# Altium integrated library Analog Devices Data Converters Analog-to-Digital Converters.IntLib: 2404 symbols (part 173 of 346)
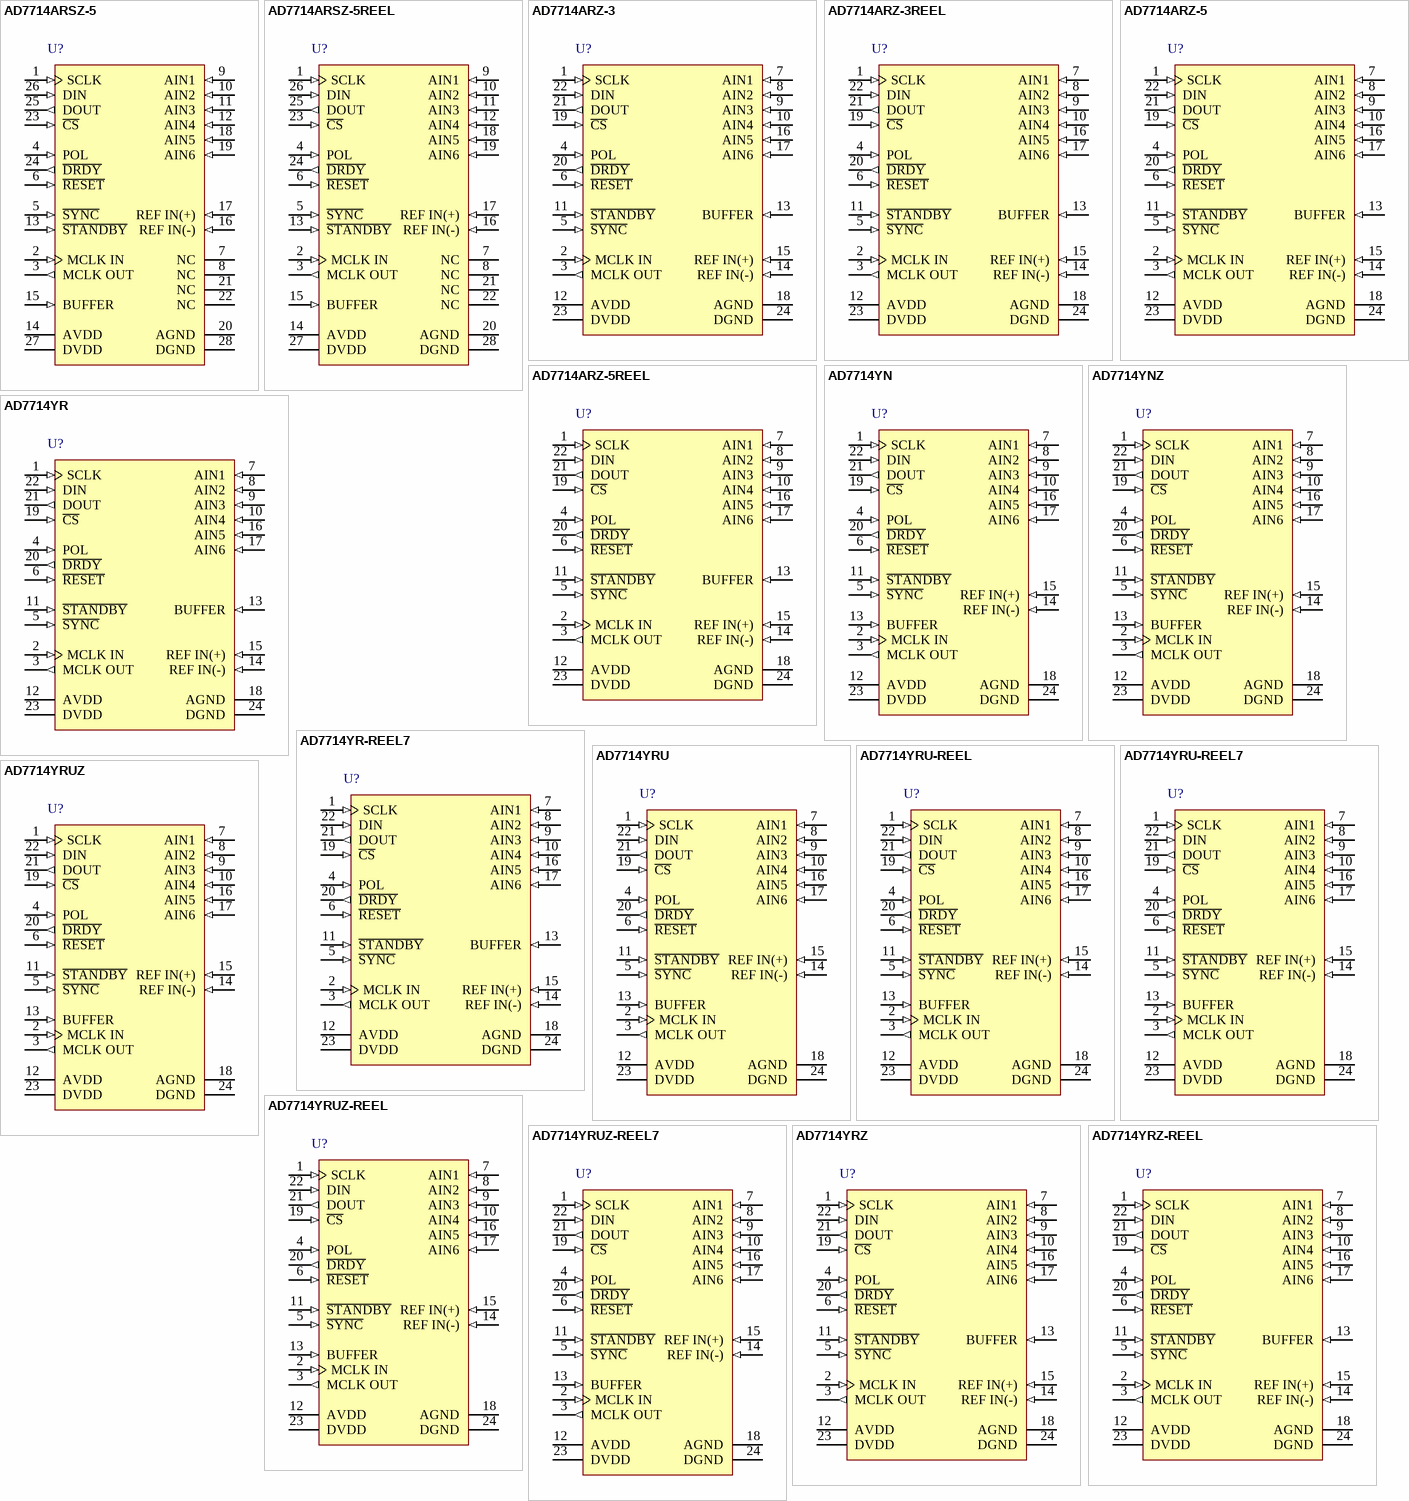
[diagram p249: symbols AD7714ARSZ-5 to AD7714YRZ-REEL]

## AD7714YRUZ
designator U?
5 Channel 24-Bit Signal Conditioning Analog-to-Digital Converter with Serial, SPI Interface, 500 uA, CMOS, 3 V / 5 V, 1KSPS, -40 to +105 degC, RU-24, Pb-Free, Tube; Generic Part Number: AD7714; Manufacturer: Analog Devices; PartNumber: AD7714YRUZ; Resolution (Bits): 24; Channels: 5; Throughput Rate (SPS): 1K; Interface: Ser, SPI; DatasheetVersion: Rev.C; PackageVersion: 2002; PackageReference: RU-24; PackageDescription: 24-Lead Thin Shrink Small Outline Package [TSSOP]; Supplier 1: Digi-Key; Supplier Part Number 1: AD7714YRUZ-ND; Supplier 2: Farnell; Supplier Part Number 2: 1438857; Supplier 3: Newark; Supplier Part Number 3: 15P0853; Supplier 4: Newark; Supplier Part Number 4: 19M8848; Supplier 5: Mouser; Supplier Part Number 5: 584-AD7714YRUZ; RoHS: Y; Packing: Tube; Mounting Technology: Surface Mount; Code_JEDEC: MO-153-AD; ComponentLink1Description: Manufacturer URL; ComponentLink1URL: http://www.analog.com/en/index.html; ComponentLink2Description: Datasheet; ComponentLink2URL: http://www.analog.com/static/imported-files/data_sheets/AD7714.pdf; ComponentLink3Description: Package Specification; ComponentLink3URL: http://www.analog.com/static/imported-files/packages/380523655245964505593671154107510036154RU24.pdf; ComponentLink4Description: Product URL; ComponentLink4URL: http://www.analog.com/en/analog-to-digital-converters/ad-converters/ad7714/products/product.html
footprint RU-24_N (TSOP, 24-Leads, Body 7.8x4.4mm, Pitch 0.65mm, IPC Medium Density)
footprint RU-24_L (TSOP, 24-Leads, Body 7.8x4.4mm, Pitch 0.65mm, IPC High Density)
footprint RU-24_M (TSOP, 24-Leads, Body 7.8x4.4mm, Pitch 0.65mm, IPC Low Density)
pins: 1 SCLK (in) "Serial Clock. Logic Input. An external serial clock is applied to this input to access serial data from the AD7714. This serial clock can be a continuous clock with all data transmitted in a continuous train of pulses.(See Datasheet)", 2 MCLK IN (in) "Master Clock signal for the device. This can be provided in the form of a crystal/resonator or external clock. A crystal/resonator can be tied across the MCLK IN and MCLK OUT pins. Alternatively, the MCLK IN pin can be (See Datasheet)", 3 MCLK OUT (out) "When the master clock for the device is a crystal/resonator, the crystal/resonator is connected between MCLK IN and MCLK OUT. If an external clock is applied to the MCLK IN, MCLK OUT provides an inverted clock signal. This (See Datasheet)", 4 POL (in) "Clock Polarity. Logic Input. With this input low, the first transition of the serial clock in a data transfer operation is from a low to a high. In microcontroller applications, this means that the serial clock should idle (See Datasheet)", 5 ~{SYNC} (in) "Logic Input which allows for synchronization of the digital filters and analog modulators when using a number of AD7714s. While S\Y\N\C\ is low, the nodes of the digital filter, the filter control logic and the calibration (See Datasheet)", 6 ~{RESET} (in) "Logic Input. Active low input which resets the control logic, interface logic, digital filter and analog modulator of the part to power-on status.", 7 AIN1 (in) "Analog Input Channel 1. Programmable-gain analog input which can be used as a pseudo-differential input when used with AIN6 or as the positive input of a differential analog input pair when used with AIN2 (see Communications (See Datasheet)", 8 AIN2 (in) "Analog Input Channel 2. Programmable-gain analog input which can be used as a pseudo-differential input when used with AIN6 or as the negative input of a differential analog input pair when used with AIN1 (see Communications (See Datasheet)", 9 AIN3 (in) "Analog Input Channel 3. Programmable-gain analog input which can be used as a pseudo-differential input when used with AIN6 or as the positive input of a differential analog input pair when used with AIN4 (see Communications (See Datasheet)", 10 AIN4 (in) "Analog Input Channel 4. Programmable-gain analog input which can be used as a pseudo-differential input when used with AIN6 or as the negative input of a differential analog input pair when used with AIN3 (see Communications (See Datasheet)", 11 ~{STANDBY} (in) "Logic Input. Taking this pin low shuts down the analog and digital circuitry, reducing current consumption to typically 5 uA.", 12 AVDD (power) "Analog Positive Supply Voltage, A Grade Versions: +3.3V nominal (AD7714-3) or +5V nominal (AD7714-5); Y Grade Versions: 3 V or 5 V nominal.", 13 BUFFER (in) "Buffer Option Select. Logic Input. With this input low, the on-chip buffer on the analog input (after the multiplexer and before the analog modulator) is shorted out. With the buffer shorted out the current flowing in the (See Datasheet)", 14 REF IN(-) (in) "Reference Input. Negative input of the differential reference input to the AD7714. The REF IN(-) can lie anywhere between AVDD and AGND provided REF IN(+) is greater than REF IN(-).", 15 REF IN(+) (in) "Reference Input. Positive input of the differential reference input to the AD7714. The reference input is differential with the provision that REF IN(+) must be greater than REF IN(-). REF IN(+) can lie anywhere between AVDD (See Datasheet)", 16 AIN5 (in) "Analog Input Channel 5. Programmable-gain analog input which is the positive input of a differential analog input pair when used with AIN6 (see Communications Register section).", 17 AIN6 (in) "Analog Input Channel 6. Reference point for AIN1 through AIN4 in pseudo-differential mode or as the negative input of a differential input pair when used with AIN5 (see Communications Register section).", 18 AGND (power) "Ground reference point for analog circuitry.", 19 ~{CS} (in) "Chip Select. Active low Logic Input used to select the AD7714. With this input hard-wired low, the AD7714 can operate in its three-wire interface mode with SCLK, DIN and DOUT used to interface to the device. C\S\ can be used (See Datasheet)", 20 ~{DRDY} (out) "Logic output. A logic low on this output indicates that a new output word is available from the AD7714 data register. The D\R\D\Y\ pin will return high upon completion of a read operation of a full output word. If no data (See Datasheet)", 21 DOUT (out) "Serial Data Output with serial data being read from the output shift register on the part. This output shift register can contain information from the calibration registers, mode register, communications register, filter (See Datasheet)", 22 DIN (in) "Serial Data Input with serial data being written to the input shift register on the part. Data from this input shift register is transferred to the calibration registers, mode register, communications register or filter (See Datasheet)", 23 DVDD (power) "Digital Supply Voltage, A Grade Versions: +3.3V or +5 V nominal; Y Grade Versions: 3 V or 5 V nominal.", 24 DGND (power) "Ground reference point for digital circuitry."

## AD7714YRUZ-REEL
designator U?
5 Channel 24-Bit Signal Conditioning Analog-to-Digital Converter with Serial, SPI Interface, 500 uA, CMOS, 3 V / 5 V, 1KSPS, -40 to +105 degC, RU-24, Pb-Free, Reel; Generic Part Number: AD7714; Manufacturer: Analog Devices; PartNumber: AD7714YRUZ-REEL; Resolution (Bits): 24; Channels: 5; Throughput Rate (SPS): 1K; Interface: Ser, SPI; DatasheetVersion: Rev.C; PackageVersion: 2002; PackageReference: RU-24; PackageDescription: 24-Lead Thin Shrink Small Outline Package [TSSOP]; Supplier 1: Digi-Key; Supplier Part Number 1: AD7714YRUZ-REEL-ND; Supplier 2: Mouser; Supplier Part Number 2: 584-AD7714YRUZ-R; RoHS: Y; Packing: Reel; Mounting Technology: Surface Mount; Code_JEDEC: MO-153-AD; ComponentLink1Description: Manufacturer URL; ComponentLink1URL: http://www.analog.com/en/index.html; ComponentLink2Description: Datasheet; ComponentLink2URL: http://www.analog.com/static/imported-files/data_sheets/AD7714.pdf; ComponentLink3Description: Package Specification; ComponentLink3URL: http://www.analog.com/static/imported-files/packages/380523655245964505593671154107510036154RU24.pdf; ComponentLink4Description: Product URL; ComponentLink4URL: http://www.analog.com/en/analog-to-digital-converters/ad-converters/ad7714/products/product.html
footprint RU-24_N (TSOP, 24-Leads, Body 7.8x4.4mm, Pitch 0.65mm, IPC Medium Density)
footprint RU-24_L (TSOP, 24-Leads, Body 7.8x4.4mm, Pitch 0.65mm, IPC High Density)
footprint RU-24_M (TSOP, 24-Leads, Body 7.8x4.4mm, Pitch 0.65mm, IPC Low Density)
pins: 1 SCLK (in) "Serial Clock. Logic Input. An external serial clock is applied to this input to access serial data from the AD7714. This serial clock can be a continuous clock with all data transmitted in a continuous train of pulses.(See Datasheet)", 2 MCLK IN (in) "Master Clock signal for the device. This can be provided in the form of a crystal/resonator or external clock. A crystal/resonator can be tied across the MCLK IN and MCLK OUT pins. Alternatively, the MCLK IN pin can be (See Datasheet)", 3 MCLK OUT (out) "When the master clock for the device is a crystal/resonator, the crystal/resonator is connected between MCLK IN and MCLK OUT. If an external clock is applied to the MCLK IN, MCLK OUT provides an inverted clock signal. This (See Datasheet)", 4 POL (in) "Clock Polarity. Logic Input. With this input low, the first transition of the serial clock in a data transfer operation is from a low to a high. In microcontroller applications, this means that the serial clock should idle (See Datasheet)", 5 ~{SYNC} (in) "Logic Input which allows for synchronization of the digital filters and analog modulators when using a number of AD7714s. While S\Y\N\C\ is low, the nodes of the digital filter, the filter control logic and the calibration (See Datasheet)", 6 ~{RESET} (in) "Logic Input. Active low input which resets the control logic, interface logic, digital filter and analog modulator of the part to power-on status.", 7 AIN1 (in) "Analog Input Channel 1. Programmable-gain analog input which can be used as a pseudo-differential input when used with AIN6 or as the positive input of a differential analog input pair when used with AIN2 (see Communications (See Datasheet)", 8 AIN2 (in) "Analog Input Channel 2. Programmable-gain analog input which can be used as a pseudo-differential input when used with AIN6 or as the negative input of a differential analog input pair when used with AIN1 (see Communications (See Datasheet)", 9 AIN3 (in) "Analog Input Channel 3. Programmable-gain analog input which can be used as a pseudo-differential input when used with AIN6 or as the positive input of a differential analog input pair when used with AIN4 (see Communications (See Datasheet)", 10 AIN4 (in) "Analog Input Channel 4. Programmable-gain analog input which can be used as a pseudo-differential input when used with AIN6 or as the negative input of a differential analog input pair when used with AIN3 (see Communications (See Datasheet)", 11 ~{STANDBY} (in) "Logic Input. Taking this pin low shuts down the analog and digital circuitry, reducing current consumption to typically 5 uA.", 12 AVDD (power) "Analog Positive Supply Voltage, A Grade Versions: +3.3V nominal (AD7714-3) or +5V nominal (AD7714-5); Y Grade Versions: 3 V or 5 V nominal.", 13 BUFFER (in) "Buffer Option Select. Logic Input. With this input low, the on-chip buffer on the analog input (after the multiplexer and before the analog modulator) is shorted out. With the buffer shorted out the current flowing in the (See Datasheet)", 14 REF IN(-) (in) "Reference Input. Negative input of the differential reference input to the AD7714. The REF IN(-) can lie anywhere between AVDD and AGND provided REF IN(+) is greater than REF IN(-).", 15 REF IN(+) (in) "Reference Input. Positive input of the differential reference input to the AD7714. The reference input is differential with the provision that REF IN(+) must be greater than REF IN(-). REF IN(+) can lie anywhere between AVDD (See Datasheet)", 16 AIN5 (in) "Analog Input Channel 5. Programmable-gain analog input which is the positive input of a differential analog input pair when used with AIN6 (see Communications Register section).", 17 AIN6 (in) "Analog Input Channel 6. Reference point for AIN1 through AIN4 in pseudo-differential mode or as the negative input of a differential input pair when used with AIN5 (see Communications Register section).", 18 AGND (power) "Ground reference point for analog circuitry.", 19 ~{CS} (in) "Chip Select. Active low Logic Input used to select the AD7714. With this input hard-wired low, the AD7714 can operate in its three-wire interface mode with SCLK, DIN and DOUT used to interface to the device. C\S\ can be used (See Datasheet)", 20 ~{DRDY} (out) "Logic output. A logic low on this output indicates that a new output word is available from the AD7714 data register. The D\R\D\Y\ pin will return high upon completion of a read operation of a full output word. If no data (See Datasheet)", 21 DOUT (out) "Serial Data Output with serial data being read from the output shift register on the part. This output shift register can contain information from the calibration registers, mode register, communications register, filter (See Datasheet)", 22 DIN (in) "Serial Data Input with serial data being written to the input shift register on the part. Data from this input shift register is transferred to the calibration registers, mode register, communications register or filter (See Datasheet)", 23 DVDD (power) "Digital Supply Voltage, A Grade Versions: +3.3V or +5 V nominal; Y Grade Versions: 3 V or 5 V nominal.", 24 DGND (power) "Ground reference point for digital circuitry."

## AD7714YRUZ-REEL7
designator U?
5 Channel 24-Bit Signal Conditioning Analog-to-Digital Converter with Serial, SPI Interface, 500 uA, CMOS, 3 V / 5 V, 1KSPS, -40 to +105 degC, RU-24, Pb-Free, Reel; Generic Part Number: AD7714; Manufacturer: Analog Devices; PartNumber: AD7714YRUZ-REEL7; Resolution (Bits): 24; Channels: 5; Throughput Rate (SPS): 1K; Interface: Ser, SPI; DatasheetVersion: Rev.C; PackageVersion: 2002; PackageReference: RU-24; PackageDescription: 24-Lead Thin Shrink Small Outline Package [TSSOP]; Supplier 1: Digi-Key; Supplier Part Number 1: AD7714YRUZ-REEL7TR-ND; Supplier 2: Digi-Key; Supplier Part Number 2: AD7714YRUZ-REEL7CT-ND; Supplier 3: Digi-Key; Supplier Part Number 3: AD7714YRUZ-REEL7DKR-ND; Supplier 4: Mouser; Supplier Part Number 4: 584-AD7714YRUZ-R7; RoHS: Y; Packing: Reel; Mounting Technology: Surface Mount; Code_JEDEC: MO-153-AD; ComponentLink1Description: Manufacturer URL; ComponentLink1URL: http://www.analog.com/en/index.html; ComponentLink2Description: Datasheet; ComponentLink2URL: http://www.analog.com/static/imported-files/data_sheets/AD7714.pdf; ComponentLink3Description: Package Specification; ComponentLink3URL: http://www.analog.com/static/imported-files/packages/380523655245964505593671154107510036154RU24.pdf; ComponentLink4Description: Product URL; ComponentLink4URL: http://www.analog.com/en/analog-to-digital-converters/ad-converters/ad7714/products/product.html
footprint RU-24_N (TSOP, 24-Leads, Body 7.8x4.4mm, Pitch 0.65mm, IPC Medium Density)
footprint RU-24_L (TSOP, 24-Leads, Body 7.8x4.4mm, Pitch 0.65mm, IPC High Density)
footprint RU-24_M (TSOP, 24-Leads, Body 7.8x4.4mm, Pitch 0.65mm, IPC Low Density)
pins: 1 SCLK (in) "Serial Clock. Logic Input. An external serial clock is applied to this input to access serial data from the AD7714. This serial clock can be a continuous clock with all data transmitted in a continuous train of pulses.(See Datasheet)", 2 MCLK IN (in) "Master Clock signal for the device. This can be provided in the form of a crystal/resonator or external clock. A crystal/resonator can be tied across the MCLK IN and MCLK OUT pins. Alternatively, the MCLK IN pin can be (See Datasheet)", 3 MCLK OUT (out) "When the master clock for the device is a crystal/resonator, the crystal/resonator is connected between MCLK IN and MCLK OUT. If an external clock is applied to the MCLK IN, MCLK OUT provides an inverted clock signal. This (See Datasheet)", 4 POL (in) "Clock Polarity. Logic Input. With this input low, the first transition of the serial clock in a data transfer operation is from a low to a high. In microcontroller applications, this means that the serial clock should idle (See Datasheet)", 5 ~{SYNC} (in) "Logic Input which allows for synchronization of the digital filters and analog modulators when using a number of AD7714s. While S\Y\N\C\ is low, the nodes of the digital filter, the filter control logic and the calibration (See Datasheet)", 6 ~{RESET} (in) "Logic Input. Active low input which resets the control logic, interface logic, digital filter and analog modulator of the part to power-on status.", 7 AIN1 (in) "Analog Input Channel 1. Programmable-gain analog input which can be used as a pseudo-differential input when used with AIN6 or as the positive input of a differential analog input pair when used with AIN2 (see Communications (See Datasheet)", 8 AIN2 (in) "Analog Input Channel 2. Programmable-gain analog input which can be used as a pseudo-differential input when used with AIN6 or as the negative input of a differential analog input pair when used with AIN1 (see Communications (See Datasheet)", 9 AIN3 (in) "Analog Input Channel 3. Programmable-gain analog input which can be used as a pseudo-differential input when used with AIN6 or as the positive input of a differential analog input pair when used with AIN4 (see Communications (See Datasheet)", 10 AIN4 (in) "Analog Input Channel 4. Programmable-gain analog input which can be used as a pseudo-differential input when used with AIN6 or as the negative input of a differential analog input pair when used with AIN3 (see Communications (See Datasheet)", 11 ~{STANDBY} (in) "Logic Input. Taking this pin low shuts down the analog and digital circuitry, reducing current consumption to typically 5 uA.", 12 AVDD (power) "Analog Positive Supply Voltage, A Grade Versions: +3.3V nominal (AD7714-3) or +5V nominal (AD7714-5); Y Grade Versions: 3 V or 5 V nominal.", 13 BUFFER (in) "Buffer Option Select. Logic Input. With this input low, the on-chip buffer on the analog input (after the multiplexer and before the analog modulator) is shorted out. With the buffer shorted out the current flowing in the (See Datasheet)", 14 REF IN(-) (in) "Reference Input. Negative input of the differential reference input to the AD7714. The REF IN(-) can lie anywhere between AVDD and AGND provided REF IN(+) is greater than REF IN(-).", 15 REF IN(+) (in) "Reference Input. Positive input of the differential reference input to the AD7714. The reference input is differential with the provision that REF IN(+) must be greater than REF IN(-). REF IN(+) can lie anywhere between AVDD (See Datasheet)", 16 AIN5 (in) "Analog Input Channel 5. Programmable-gain analog input which is the positive input of a differential analog input pair when used with AIN6 (see Communications Register section).", 17 AIN6 (in) "Analog Input Channel 6. Reference point for AIN1 through AIN4 in pseudo-differential mode or as the negative input of a differential input pair when used with AIN5 (see Communications Register section).", 18 AGND (power) "Ground reference point for analog circuitry.", 19 ~{CS} (in) "Chip Select. Active low Logic Input used to select the AD7714. With this input hard-wired low, the AD7714 can operate in its three-wire interface mode with SCLK, DIN and DOUT used to interface to the device. C\S\ can be used (See Datasheet)", 20 ~{DRDY} (out) "Logic output. A logic low on this output indicates that a new output word is available from the AD7714 data register. The D\R\D\Y\ pin will return high upon completion of a read operation of a full output word. If no data (See Datasheet)", 21 DOUT (out) "Serial Data Output with serial data being read from the output shift register on the part. This output shift register can contain information from the calibration registers, mode register, communications register, filter (See Datasheet)", 22 DIN (in) "Serial Data Input with serial data being written to the input shift register on the part. Data from this input shift register is transferred to the calibration registers, mode register, communications register or filter (See Datasheet)", 23 DVDD (power) "Digital Supply Voltage, A Grade Versions: +3.3V or +5 V nominal; Y Grade Versions: 3 V or 5 V nominal.", 24 DGND (power) "Ground reference point for digital circuitry."

## AD7714YRZ
designator U?
5 Channel 24-Bit Signal Conditioning Analog-to-Digital Converter with Serial, SPI Interface, 500 uA, CMOS, 3 V / 5 V, 1KSPS, -40 to +105 degC, RW-24, Pb-Free, Tube; Generic Part Number: AD7714; Manufacturer: Analog Devices; PartNumber: AD7714YRZ; Resolution (Bits): 24; Channels: 5; Throughput Rate (SPS): 1K; Interface: Ser, SPI; DatasheetVersion: Rev.C; PackageVersion: 060706-A; PackageReference: RW-24; PackageDescription: 24-Lead Standard Small Outline Package [SOIC_W]; Supplier 1: Digi-Key; Supplier Part Number 1: AD7714YRZ-ND; Supplier 2: Farnell; Supplier Part Number 2: 1438858; Supplier 3: Newark; Supplier Part Number 3: 15P0854; Supplier 4: Newark; Supplier Part Number 4: 59K5335; Supplier 5: Mouser; Supplier Part Number 5: 584-AD7714YRZ; RoHS: Y; Packing: Tube; Mounting Technology: Surface Mount; Code_JEDEC: MS-013-AD; ComponentLink1Description: Manufacturer URL; ComponentLink1URL: http://www.analog.com/en/index.html; ComponentLink2Description: Datasheet; ComponentLink2URL: http://www.analog.com/static/imported-files/data_sheets/AD7714.pdf; ComponentLink3Description: Package Specification; ComponentLink3URL: http://www.analog.com/static/imported-files/packages/33665150946139RW_24.pdf; ComponentLink4Description: Product URL; ComponentLink4URL: http://www.analog.com/en/analog-to-digital-converters/ad-converters/ad7714/products/product.html
footprint RW-24_N (SOIC, 24-Leads, Body 15.4x7.5mm, Pitch 1.27mm, IPC Medium Density)
footprint RW-24_L (SOIC, 24-Leads, Body 15.4x7.5mm, Pitch 1.27mm, IPC High Density)
footprint RW-24_M (SOIC, 24-Leads, Body 15.4x7.5mm, Pitch 1.27mm, IPC Low Density)
pins: 1 SCLK (in) "Serial Clock. Logic Input. An external serial clock is applied to this input to access serial data from the AD7714. This serial clock can be a continuous clock with all data transmitted in a continuous train of pulses.(See Datasheet)", 2 MCLK IN (in) "Master Clock signal for the device. This can be provided in the form of a crystal/resonator or external clock. A crystal/resonator can be tied across the MCLK IN and MCLK OUT pins. Alternatively, the MCLK IN pin can be (See Datasheet)", 3 MCLK OUT (out) "When the master clock for the device is a crystal/resonator, the crystal/resonator  is connected between MCLK IN and MCLK OUT. If an external clock is applied to the MCLK IN, MCLK OUT provides an inverted clock signal. This (See Datasheet)", 4 POL (in) "Clock Polarity. Logic Input. With this input low, the first transition of the serial clock in a data transfer operation is from a low to a high. In microcontroller applications, this means that the serial clock should idle (See Datasheet)", 5 ~{SYNC} (in) "Logic Input which allows for synchronization of the digital filters and analog modulators when using a number of AD7714s. While S\Y\N\C\ is low, the nodes of the digital filter, the filter control logic and the calibration (See Datasheet)", 6 ~{RESET} (in) "Logic Input. Active low input which resets the control logic, interface logic, digital filter and analog modulator of the part to power-on status.", 7 AIN1 (in) "Analog Input Channel 1. Programmable-gain analog input which can be used as a pseudo-differential input when used with AIN6 or as the positive input of a differential analog input pair when used with AIN2 (see Communications (See Datasheet)", 8 AIN2 (in) "Analog Input Channel 2. Programmable-gain analog input which can be used as a pseudo-differential input  when used with AIN6 or as the negative input of a differential analog input pair when used with AIN1 (see (See Datasheet)", 9 AIN3 (in) "Analog Input Channel 3. Programmable-gain analog input which can be used as a pseudo-differential input when used with AIN6 or as the positive input of a differential analog input pair when used with AIN4 (see Communications (See Datasheet)", 10 AIN4 (in) "Analog Input Channel 4. Programmable-gain analog input which can be used as a pseudo-differential input when used with AIN6 or as the negative input of a differential analog input pair when used with AIN3 (see Communications (See Datasheet)", 11 ~{STANDBY} (in) "Logic Input. Taking this pin low shuts down the analog and digital circuitry, reducing current consumption to typically 5 uA.", 12 AVDD (power) "Analog Positive Supply Voltage, A Grade Versions: +3.3 V nominal (AD7714-3) or +5 V nominal (AD7714-5);Y Grade Versions: 3 V or 5 V nominal.", 13 BUFFER (in) "Buffer Option Select. Logic Input. With this input low, the on-chip buffer on the analog input (after the multiplexer and before the analog modulator) is shorted out. With the buffer shorted out the current flowing in the (See Datasheet)", 14 REF IN(-) (in) "Reference Input. Negative input of the differential reference input to the AD7714. The REF IN(-) can lie anywhere between AVDD and AGND provided REFIN(+) is greater than REF IN(-).", 15 REF IN(+) (in) "Reference Input. Positive input of the differential reference input to the AD7714. The reference input is differential with the provision that REF IN(+) must be greater than REF IN(-). REF IN(+) can lie anywhere between AVDD (See Datasheet)", 16 AIN5 (in) "Analog Input Channel 5. Programmable-gain analog input which is the positive input of a differential analog input pair when used with AIN6 (see Communications Register section).", 17 AIN6 (in) "Analog Input Channel 6. Reference point for AIN1 through AIN4 in pseudo-differential mode or as the negative input of a differential input pair when used with AIN5 (see Communications Register section).", 18 AGND (power) "Ground reference point for analog circuitry.", 19 ~{CS} (in) "Chip Select. Active low Logic Input used to select the AD7714. With this input hard-wired low, the AD7714 can operate in its three-wire interface mode with SCLK, DIN and DOUT used to interface to the device. C\S\ can be used (See Datasheet)", 20 ~{DRDY} (out) "Logic output. A logic low on this output indicates that a new output word is available from the AD7714 data register. The D\R\D\Y\ pin will return high upon completion of a read operation of a full output word. If no data (See Datasheet)", 21 DOUT (out) "Serial Data Output with serial data being read from the output shift register on the part. This output shift register can contain information from the calibration registers, mode register, communications register, filter (See Datasheet)", 22 DIN (in) "Serial Data Input with serial data being written to the input shift register on the part. Data from this input shift register is transferred to the calibration registers, mode register, communications register or filter (See Datasheet)", 23 DVDD (power) "Digital Supply Voltage, A Grade Versions: +3.3 V or +5 V nominal; Y Grade Versions: 3 V or 5 V nominal.", 24 DGND (power) "Ground reference point for digital circuitry."

## AD7714YRZ-REEL
designator U?
5 Channel 24-Bit Signal Conditioning Analog-to-Digital Converter with Serial, SPI Interface, 500 uA, CMOS, 3 V / 5 V, 1KSPS, -40 to +105 degC, RW-24, Pb-Free, Reel; Generic Part Number: AD7714; Manufacturer: Analog Devices; PartNumber: AD7714YRZ-REEL; Resolution (Bits): 24; Channels: 5; Throughput Rate (SPS): 1K; Interface: Ser, SPI; DatasheetVersion: Rev.C; PackageVersion: 060706-A; PackageReference: RW-24; PackageDescription: 24-Lead Standard Small Outline Package [SOIC_W]; Supplier 1: Digi-Key; Supplier Part Number 1: AD7714YRZ-REEL-ND; Supplier 2: Mouser; Supplier Part Number 2: 584-AD7714YRZ-R; RoHS: Y; Packing: Reel; Mounting Technology: Surface Mount; Code_JEDEC: MS-013-AD; ComponentLink1Description: Manufacturer URL; ComponentLink1URL: http://www.analog.com/en/index.html; ComponentLink2Description: Datasheet; ComponentLink2URL: http://www.analog.com/static/imported-files/data_sheets/AD7714.pdf; ComponentLink3Description: Package Specification; ComponentLink3URL: http://www.analog.com/static/imported-files/packages/33665150946139RW_24.pdf; ComponentLink4Description: Product URL; ComponentLink4URL: http://www.analog.com/en/analog-to-digital-converters/ad-converters/ad7714/products/product.html
footprint RW-24_N (SOIC, 24-Leads, Body 15.4x7.5mm, Pitch 1.27mm, IPC Medium Density)
footprint RW-24_L (SOIC, 24-Leads, Body 15.4x7.5mm, Pitch 1.27mm, IPC High Density)
footprint RW-24_M (SOIC, 24-Leads, Body 15.4x7.5mm, Pitch 1.27mm, IPC Low Density)
pins: 1 SCLK (in) "Serial Clock. Logic Input. An external serial clock is applied to this input to access serial data from the AD7714. This serial clock can be a continuous clock with all data transmitted in a continuous train of pulses.(See Datasheet)", 2 MCLK IN (in) "Master Clock signal for the device. This can be provided in the form of a crystal/resonator or external clock. A crystal/resonator can be tied across the MCLK IN and MCLK OUT pins. Alternatively, the MCLK IN pin can be (See Datasheet)", 3 MCLK OUT (out) "When the master clock for the device is a crystal/resonator, the crystal/resonator  is connected between MCLK IN and MCLK OUT. If an external clock is applied to the MCLK IN, MCLK OUT provides an inverted clock signal. This (See Datasheet)", 4 POL (in) "Clock Polarity. Logic Input. With this input low, the first transition of the serial clock in a data transfer operation is from a low to a high. In microcontroller applications, this means that the serial clock should idle (See Datasheet)", 5 ~{SYNC} (in) "Logic Input which allows for synchronization of the digital filters and analog modulators when using a number of AD7714s. While S\Y\N\C\ is low, the nodes of the digital filter, the filter control logic and the calibration (See Datasheet)", 6 ~{RESET} (in) "Logic Input. Active low input which resets the control logic, interface logic, digital filter and analog modulator of the part to power-on status.", 7 AIN1 (in) "Analog Input Channel 1. Programmable-gain analog input which can be used as a pseudo-differential input when used with AIN6 or as the positive input of a differential analog input pair when used with AIN2 (see Communications (See Datasheet)", 8 AIN2 (in) "Analog Input Channel 2. Programmable-gain analog input which can be used as a pseudo-differential input  when used with AIN6 or as the negative input of a differential analog input pair when used with AIN1 (see (See Datasheet)", 9 AIN3 (in) "Analog Input Channel 3. Programmable-gain analog input which can be used as a pseudo-differential input when used with AIN6 or as the positive input of a differential analog input pair when used with AIN4 (see Communications (See Datasheet)", 10 AIN4 (in) "Analog Input Channel 4. Programmable-gain analog input which can be used as a pseudo-differential input when used with AIN6 or as the negative input of a differential analog input pair when used with AIN3 (see Communications (See Datasheet)", 11 ~{STANDBY} (in) "Logic Input. Taking this pin low shuts down the analog and digital circuitry, reducing current consumption to typically 5 uA.", 12 AVDD (power) "Analog Positive Supply Voltage, A Grade Versions: +3.3 V nominal (AD7714-3) or +5 V nominal (AD7714-5);Y Grade Versions: 3 V or 5 V nominal.", 13 BUFFER (in) "Buffer Option Select. Logic Input. With this input low, the on-chip buffer on the analog input (after the multiplexer and before the analog modulator) is shorted out. With the buffer shorted out the current flowing in the (See Datasheet)", 14 REF IN(-) (in) "Reference Input. Negative input of the differential reference input to the AD7714. The REF IN(-) can lie anywhere between AVDD and AGND provided REFIN(+) is greater than REF IN(-).", 15 REF IN(+) (in) "Reference Input. Positive input of the differential reference input to the AD7714. The reference input is differential with the provision that REF IN(+) must be greater than REF IN(-). REF IN(+) can lie anywhere between AVDD (See Datasheet)", 16 AIN5 (in) "Analog Input Channel 5. Programmable-gain analog input which is the positive input of a differential analog input pair when used with AIN6 (see Communications Register section).", 17 AIN6 (in) "Analog Input Channel 6. Reference point for AIN1 through AIN4 in pseudo-differential mode or as the negative input of a differential input pair when used with AIN5 (see Communications Register section).", 18 AGND (power) "Ground reference point for analog circuitry.", 19 ~{CS} (in) "Chip Select. Active low Logic Input used to select the AD7714. With this input hard-wired low, the AD7714 can operate in its three-wire interface mode with SCLK, DIN and DOUT used to interface to the device. C\S\ can be used (See Datasheet)", 20 ~{DRDY} (out) "Logic output. A logic low on this output indicates that a new output word is available from the AD7714 data register. The D\R\D\Y\ pin will return high upon completion of a read operation of a full output word. If no data (See Datasheet)", 21 DOUT (out) "Serial Data Output with serial data being read from the output shift register on the part. This output shift register can contain information from the calibration registers, mode register, communications register, filter (See Datasheet)", 22 DIN (in) "Serial Data Input with serial data being written to the input shift register on the part. Data from this input shift register is transferred to the calibration registers, mode register, communications register or filter (See Datasheet)", 23 DVDD (power) "Digital Supply Voltage, A Grade Versions: +3.3 V or +5 V nominal; Y Grade Versions: 3 V or 5 V nominal.", 24 DGND (power) "Ground reference point for digital circuitry."

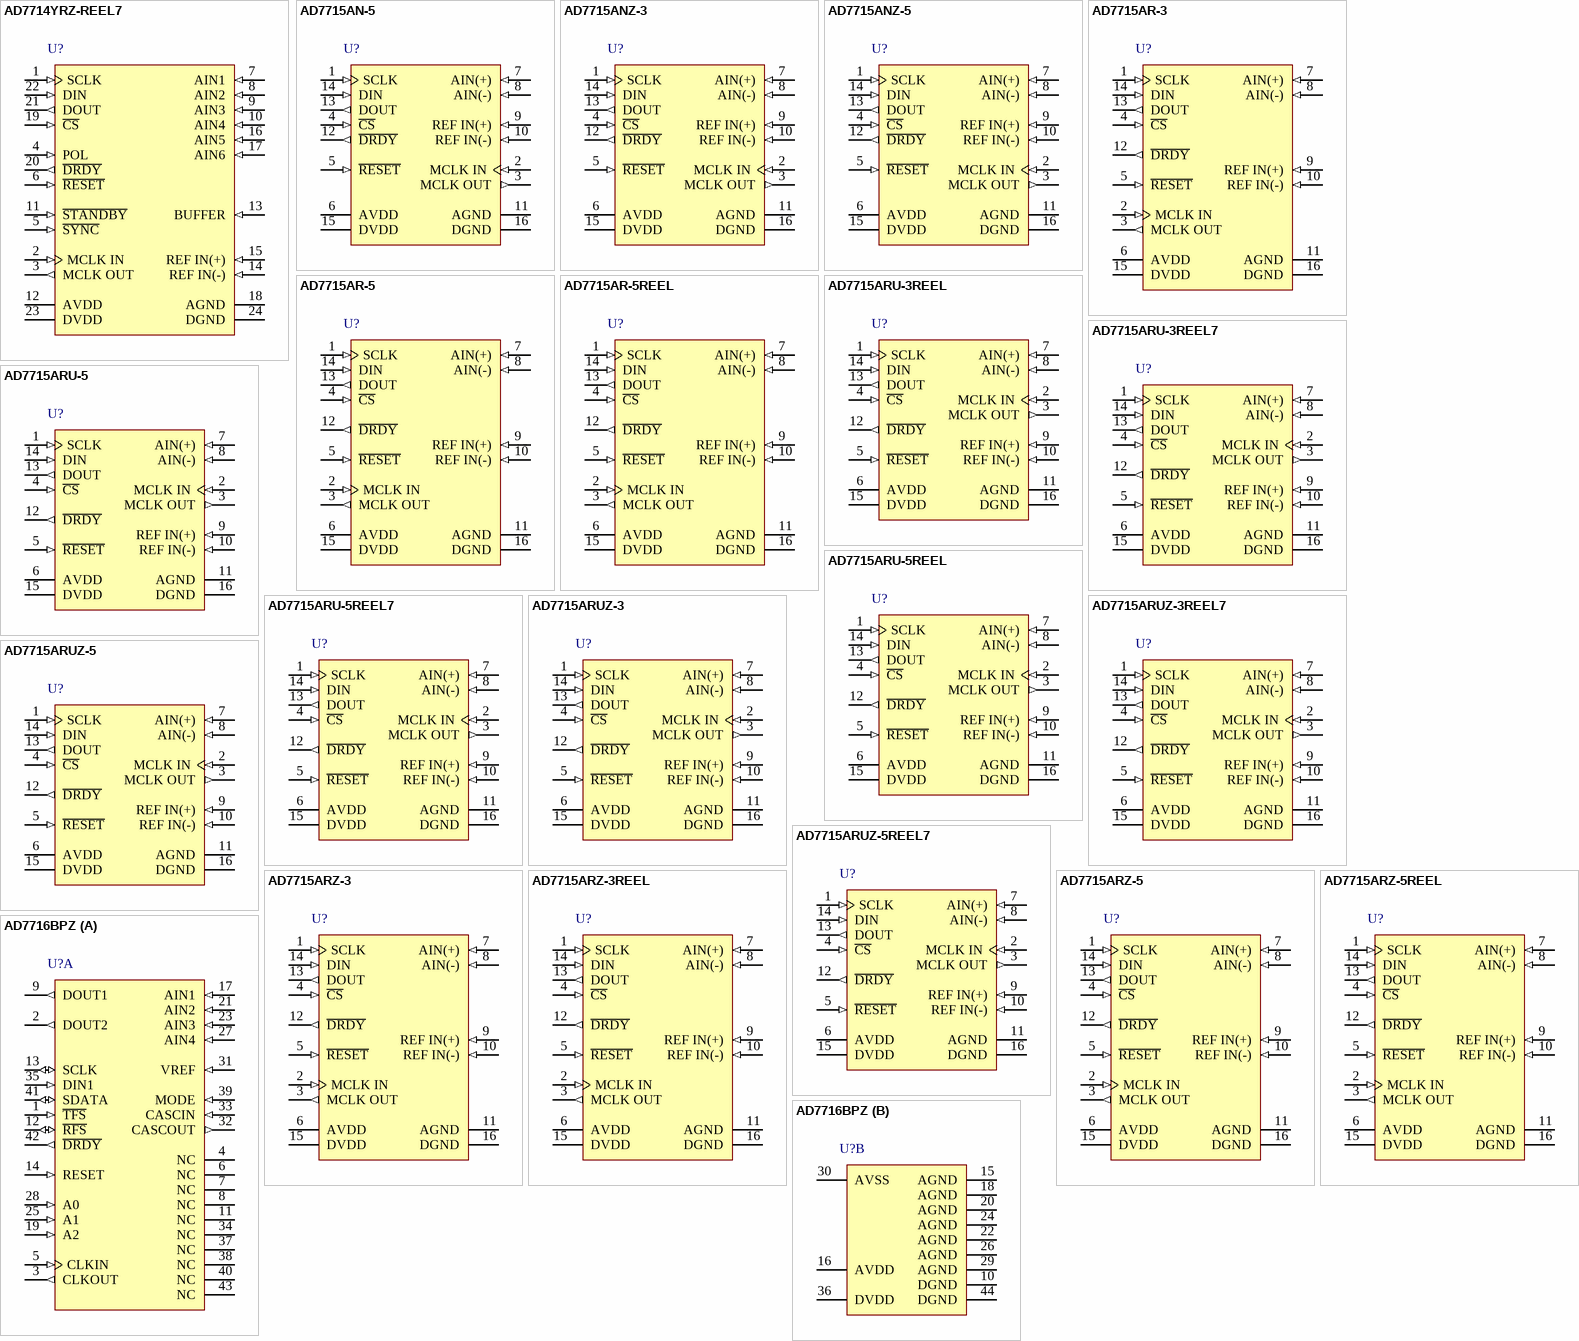
[diagram p53: symbols AD7714YRZ-REEL7 to AD7716BPZ]

## AD7714YRZ-REEL7
designator U?
5 Channel 24-Bit Signal Conditioning Analog-to-Digital Converter with Serial, SPI Interface, 500 uA, CMOS, 3 V / 5 V, 1KSPS, -40 to +105 degC, RW-24, Pb-Free, Reel; Generic Part Number: AD7714; Manufacturer: Analog Devices; PartNumber: AD7714YRZ-REEL7; Resolution (Bits): 24; Channels: 5; Throughput Rate (SPS): 1K; Interface: Ser, SPI; DatasheetVersion: Rev.C; PackageVersion: 060706-A; PackageReference: RW-24; PackageDescription: 24-Lead Standard Small Outline Package [SOIC_W]; Supplier 1: Digi-Key; Supplier Part Number 1: AD7714YRZ-REEL7-ND; Supplier 2: Mouser; Supplier Part Number 2: 584-AD7714YRZ-R7; RoHS: Y; Packing: Reel; Mounting Technology: Surface Mount; Code_JEDEC: MS-013-AD; ComponentLink1Description: Manufacturer URL; ComponentLink1URL: http://www.analog.com/en/index.html; ComponentLink2Description: Datasheet; ComponentLink2URL: http://www.analog.com/static/imported-files/data_sheets/AD7714.pdf; ComponentLink3Description: Package Specification; ComponentLink3URL: http://www.analog.com/static/imported-files/packages/33665150946139RW_24.pdf; ComponentLink4Description: Product URL; ComponentLink4URL: http://www.analog.com/en/analog-to-digital-converters/ad-converters/ad7714/products/product.html
footprint RW-24_N (SOIC, 24-Leads, Body 15.4x7.5mm, Pitch 1.27mm, IPC Medium Density)
footprint RW-24_L (SOIC, 24-Leads, Body 15.4x7.5mm, Pitch 1.27mm, IPC High Density)
footprint RW-24_M (SOIC, 24-Leads, Body 15.4x7.5mm, Pitch 1.27mm, IPC Low Density)
pins: 1 SCLK (in) "Serial Clock. Logic Input. An external serial clock is applied to this input to access serial data from the AD7714. This serial clock can be a continuous clock with all data transmitted in a continuous train of pulses.(See Datasheet)", 2 MCLK IN (in) "Master Clock signal for the device. This can be provided in the form of a crystal/resonator or external clock. A crystal/resonator can be tied across the MCLK IN and MCLK OUT pins. Alternatively, the MCLK IN pin can be (See Datasheet)", 3 MCLK OUT (out) "When the master clock for the device is a crystal/resonator, the crystal/resonator  is connected between MCLK IN and MCLK OUT. If an external clock is applied to the MCLK IN, MCLK OUT provides an inverted clock signal. This (See Datasheet)", 4 POL (in) "Clock Polarity. Logic Input. With this input low, the first transition of the serial clock in a data transfer operation is from a low to a high. In microcontroller applications, this means that the serial clock should idle (See Datasheet)", 5 ~{SYNC} (in) "Logic Input which allows for synchronization of the digital filters and analog modulators when using a number of AD7714s. While S\Y\N\C\ is low, the nodes of the digital filter, the filter control logic and the calibration (See Datasheet)", 6 ~{RESET} (in) "Logic Input. Active low input which resets the control logic, interface logic, digital filter and analog modulator of the part to power-on status.", 7 AIN1 (in) "Analog Input Channel 1. Programmable-gain analog input which can be used as a pseudo-differential input when used with AIN6 or as the positive input of a differential analog input pair when used with AIN2 (see Communications (See Datasheet)", 8 AIN2 (in) "Analog Input Channel 2. Programmable-gain analog input which can be used as a pseudo-differential input  when used with AIN6 or as the negative input of a differential analog input pair when used with AIN1 (see (See Datasheet)", 9 AIN3 (in) "Analog Input Channel 3. Programmable-gain analog input which can be used as a pseudo-differential input when used with AIN6 or as the positive input of a differential analog input pair when used with AIN4 (see Communications (See Datasheet)", 10 AIN4 (in) "Analog Input Channel 4. Programmable-gain analog input which can be used as a pseudo-differential input when used with AIN6 or as the negative input of a differential analog input pair when used with AIN3 (see Communications (See Datasheet)", 11 ~{STANDBY} (in) "Logic Input. Taking this pin low shuts down the analog and digital circuitry, reducing current consumption to typically 5 uA.", 12 AVDD (power) "Analog Positive Supply Voltage, A Grade Versions: +3.3 V nominal (AD7714-3) or +5 V nominal (AD7714-5);Y Grade Versions: 3 V or 5 V nominal.", 13 BUFFER (in) "Buffer Option Select. Logic Input. With this input low, the on-chip buffer on the analog input (after the multiplexer and before the analog modulator) is shorted out. With the buffer shorted out the current flowing in the (See Datasheet)", 14 REF IN(-) (in) "Reference Input. Negative input of the differential reference input to the AD7714. The REF IN(-) can lie anywhere between AVDD and AGND provided REFIN(+) is greater than REF IN(-).", 15 REF IN(+) (in) "Reference Input. Positive input of the differential reference input to the AD7714. The reference input is differential with the provision that REF IN(+) must be greater than REF IN(-). REF IN(+) can lie anywhere between AVDD (See Datasheet)", 16 AIN5 (in) "Analog Input Channel 5. Programmable-gain analog input which is the positive input of a differential analog input pair when used with AIN6 (see Communications Register section).", 17 AIN6 (in) "Analog Input Channel 6. Reference point for AIN1 through AIN4 in pseudo-differential mode or as the negative input of a differential input pair when used with AIN5 (see Communications Register section).", 18 AGND (power) "Ground reference point for analog circuitry.", 19 ~{CS} (in) "Chip Select. Active low Logic Input used to select the AD7714. With this input hard-wired low, the AD7714 can operate in its three-wire interface mode with SCLK, DIN and DOUT used to interface to the device. C\S\ can be used (See Datasheet)", 20 ~{DRDY} (out) "Logic output. A logic low on this output indicates that a new output word is available from the AD7714 data register. The D\R\D\Y\ pin will return high upon completion of a read operation of a full output word. If no data (See Datasheet)", 21 DOUT (out) "Serial Data Output with serial data being read from the output shift register on the part. This output shift register can contain information from the calibration registers, mode register, communications register, filter (See Datasheet)", 22 DIN (in) "Serial Data Input with serial data being written to the input shift register on the part. Data from this input shift register is transferred to the calibration registers, mode register, communications register or filter (See Datasheet)", 23 DVDD (power) "Digital Supply Voltage, A Grade Versions: +3.3 V or +5 V nominal; Y Grade Versions: 3 V or 5 V nominal.", 24 DGND (power) "Ground reference point for digital circuitry."

## AD7715AN-5
designator U?
Single 16-Bit Sigma-Delta Analog-to-Digital Converter with Serial, SPI Interface, 450 uA, 5 V, 500SPS, -40 to +85 degC, N-16, Tube; Generic Part Number: AD7715; Manufacturer: Analog Devices; PartNumber: AD7715AN-5; Resolution (Bits): 16; Channels: 1; Throughput Rate (SPS): 500; Interface: Ser, SPI; DatasheetVersion: Rev.D; PackageVersion: 070706-A; PackageReference: N-16; PackageDescription: 16-Lead Plastic Dual In-Line Package [PDIP] Narrow Body; Supplier 1: Digi-Key; Supplier Part Number 1: AD7715AN-5-ND; Supplier 2: Newark; Supplier Part Number 2: 16F6540; Supplier 3: Mouser; Supplier Part Number 3: 584-AD7715AN-5; RoHS: N; Packing: Tube; Mounting Technology: Through-hole; Code_JEDEC: MS-001; ComponentLink1Description: Manufacturer URL; ComponentLink1URL: http://www.analog.com/en/index.html; ComponentLink2Description: Datasheet; ComponentLink2URL: http://www.analog.com/static/imported-files/data_sheets/AD7715.pdf; ComponentLink3Description: Package Specification; ComponentLink3URL: http://www.analog.com/static/imported-files/packages/44768431550332N_16.pdf; ComponentLink4Description: Product URL; ComponentLink4URL: http://www.analog.com/en/analog-to-digital-converters/ad-converters/ad7715/products/product.html
footprint N-16 (DIP, 16-Leads, Row Spacing 7.62mm, Pitch 2.54mm, Body 20.1x6.6mm)
pins: 1 SCLK (in) "Serial Clock. Logic input. An external serial clock is applied to this input to access serial data from the AD7715. This serial clock can be a continuous clock with all data transmitted in a continuous train of pulses. (See Datasheet)", 2 MCLK IN (in) "Master Clock Signal for the Device. This can be provided in the form of a crystal/resonator or external clock. A crystal/resonator can be tied across the MCLK IN and MCLK OUT pins. Alternatively, the MCLK IN pin can be (See Datasheet)", 3 MCLK OUT (out) "When the master clock for the device is a crystal/resonator, the crystal/resonator is connected between MCLK IN and MCLK OUT. If an external clock is applied to MCLK IN, MCLK OUT provides an inverted clock signal. This clock (See Datasheet)", 4 ~{CS} (in) "Chip Select. Active low logic input used to select the AD7715. With this input hardwired low, the AD7715 can operate in its three-wire interface mode with SCLK, DIN, and DOUT used to interface to the device. C\S\ can be used (See Datasheet)", 5 ~{RESET} (in) "Logic Input. Active low input which resets the control logic, interface logic, calibration coefficients, digital filter, and analog modulator of the part to power-on status.", 6 AVDD (power) "Analog Positive Supply Voltage, 3.3 V nominal (AD7715-3) or 5 V nominal (AD7715-5).", 7 AIN(+) (in) "Analog Input. Positive input of the programmable gain differential analog input to the AD7715.", 8 AIN(-) (in) "Analog Input. Negative input of the programmable gain differential analog input to the AD7715.", 9 REF IN(+) (in) "Reference Input. Positive input of the differential reference input to the AD7715. The reference input is differential with the provision that REF IN(+) must be greater than REF IN(-). REF IN(+) can lie anywhere between AVDD (See Datasheet)", 10 REF IN(-) (in) "Reference Input. Negative input of the differential reference input to the AD7715. The REF IN(-) can lie anywhere between AVDD and AGND provided REF IN(+) is greater than REF IN(-).", 11 AGND (power) "Ground Reference Point for Analog Circuitry. For correct operation of the AD7715, no voltage on any of the other pins should go more than 30 mV negative with respect to AGND.", 12 ~{DRDY} (out) "Logic Output. A logic low on this output indicates that a new output word is available from the AD7715 data register. The D\R\D\Y\ pin returns high upon completion of a read operation of a full output word. If no data read (See Datasheet)", 13 DOUT (out) "Serial data output with serial data being read from the output shift register on the part. This output shift register can contain information from the setup register, communications register or data register depending on the (See Datasheet)", 14 DIN (in) "Serial data input with serial data being written to the input shift register on the part. Data from this input shift register is transferred to the setup register or communications register depending on the register (See Datasheet)", 15 DVDD (power) "Digital Supply Voltage, 3.3 V or 5 V nominal.", 16 DGND (power) "Ground reference point for digital circuitry."

## AD7715ANZ-3
designator U?
Single 16-Bit Sigma-Delta Analog-to-Digital Converter with Serial, SPI Interface, 450 uA, 3 V, 500SPS, -40 to +85 degC, N-16, Pb-Free, Tube; Generic Part Number: AD7715; Manufacturer: Analog Devices; PartNumber: AD7715ANZ-3; Resolution (Bits): 16; Channels: 1; Throughput Rate (SPS): 500; Interface: Ser, SPI; DatasheetVersion: Rev.D; PackageVersion: 070706-A; PackageReference: N-16; PackageDescription: 16-Lead Plastic Dual In-Line Package [PDIP] Narrow Body; Supplier 1: Digi-Key; Supplier Part Number 1: AD7715ANZ-3-ND; Supplier 2: Farnell; Supplier Part Number 2: 1079423; Supplier 3: Newark; Supplier Part Number 3: 31M4342; Supplier 4: Mouser; Supplier Part Number 4: 584-AD7715ANZ-3; RoHS: Y; Packing: Tube; Mounting Technology: Through-hole; Code_JEDEC: MS-001; ComponentLink1Description: Manufacturer URL; ComponentLink1URL: http://www.analog.com/en/index.html; ComponentLink2Description: Datasheet; ComponentLink2URL: http://www.analog.com/static/imported-files/data_sheets/AD7715.pdf; ComponentLink3Description: Package Specification; ComponentLink3URL: http://www.analog.com/static/imported-files/packages/44768431550332N_16.pdf; ComponentLink4Description: Product URL; ComponentLink4URL: http://www.analog.com/en/analog-to-digital-converters/ad-converters/ad7715/products/product.html
footprint N-16 (DIP, 16-Leads, Row Spacing 7.62mm, Pitch 2.54mm, Body 20.1x6.6mm)
pins: 1 SCLK (in) "Serial Clock. Logic input. An external serial clock is applied to this input to access serial data from the AD7715. This serial clock can be a continuous clock with all data transmitted in a continuous train of pulses. (See Datasheet)", 2 MCLK IN (in) "Master Clock Signal for the Device. This can be provided in the form of a crystal/resonator or external clock. A crystal/resonator can be tied across the MCLK IN and MCLK OUT pins. Alternatively, the MCLK IN pin can be (See Datasheet)", 3 MCLK OUT (out) "When the master clock for the device is a crystal/resonator, the crystal/resonator is connected between MCLK IN and MCLK OUT. If an external clock is applied to MCLK IN, MCLK OUT provides an inverted clock signal. This clock (See Datasheet)", 4 ~{CS} (in) "Chip Select. Active low logic input used to select the AD7715. With this input hardwired low, the AD7715 can operate in its three-wire interface mode with SCLK, DIN, and DOUT used to interface to the device. C\S\ can be used (See Datasheet)", 5 ~{RESET} (in) "Logic Input. Active low input which resets the control logic, interface logic, calibration coefficients, digital filter, and analog modulator of the part to power-on status.", 6 AVDD (power) "Analog Positive Supply Voltage, 3.3 V nominal (AD7715-3) or 5 V nominal (AD7715-5).", 7 AIN(+) (in) "Analog Input. Positive input of the programmable gain differential analog input to the AD7715.", 8 AIN(-) (in) "Analog Input. Negative input of the programmable gain differential analog input to the AD7715.", 9 REF IN(+) (in) "Reference Input. Positive input of the differential reference input to the AD7715. The reference input is differential with the provision that REF IN(+) must be greater than REF IN(-). REF IN(+) can lie anywhere between AVDD (See Datasheet)", 10 REF IN(-) (in) "Reference Input. Negative input of the differential reference input to the AD7715. The REF IN(-) can lie anywhere between AVDD and AGND provided REF IN(+) is greater than REF IN(-).", 11 AGND (power) "Ground Reference Point for Analog Circuitry. For correct operation of the AD7715, no voltage on any of the other pins should go more than 30 mV negative with respect to AGND.", 12 ~{DRDY} (out) "Logic Output. A logic low on this output indicates that a new output word is available from the AD7715 data register. The D\R\D\Y\ pin returns high upon completion of a read operation of a full output word. If no data read (See Datasheet)", 13 DOUT (out) "Serial data output with serial data being read from the output shift register on the part. This output shift register can contain information from the setup register, communications register or data register depending on the (See Datasheet)", 14 DIN (in) "Serial data input with serial data being written to the input shift register on the part. Data from this input shift register is transferred to the setup register or communications register depending on the register (See Datasheet)", 15 DVDD (power) "Digital Supply Voltage, 3.3 V or 5 V nominal.", 16 DGND (power) "Ground reference point for digital circuitry."